# Altium schematic symbol library TEA17731LTS.Schlib: 1 symbol
Pins are listed as number, name and electrical type; pins without a type are passive.

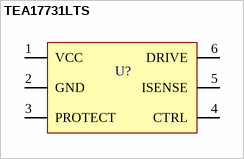
[diagram p0: symbol TEA17731LTS]

## TEA17731LTS
designator U?
footprint TSOP6
pins: 1 VCC (power), 2 GND (power), 3 PROTECT, 4 CTRL, 5 ISENSE, 6 DRIVE